# EAGLE library part ESP8266-07 (library heck)
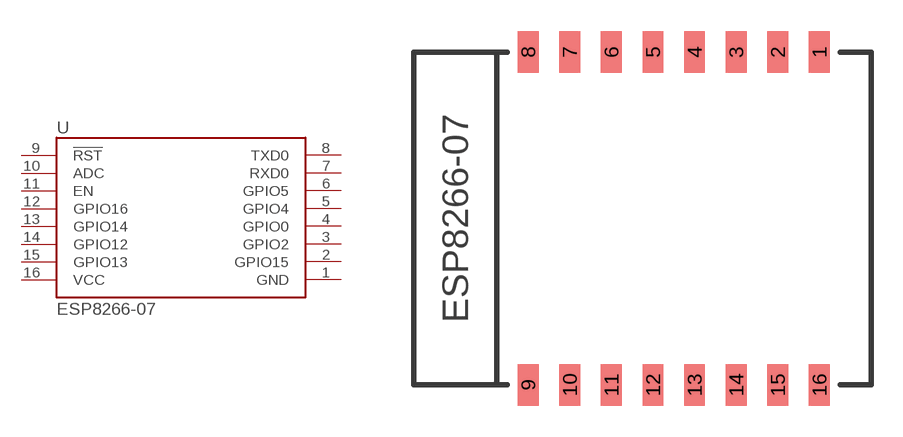
[diagram p57: symbol with the pads of ESP8266-07; footprint ESP8266-07]

Designator prefix U

## ESP8266-07  [ESP8266-07]
1  GND  pwr
2  GPIO15
3  GPIO2
4  GPIO0
5  GPIO4
6  GPIO5
7  RXD0  in
8  TXD0  out
9  !RST  in
10  ADC  in
11  EN  in
12  GPIO16
13  GPIO14
14  GPIO12
15  GPIO13
16  VCC  pwr

## Footprint ESP8266-07 (pad centres in mm)
smd 1 x 2: 1 11.5,8; 2 9.5,8; 3 7.5,8; 4 5.5,8; 5 3.5,8; 6 1.5,8; 7 -0.5,8; 8 -2.5,8; 9 -2.5,-8; 10 -0.5,-8; 11 1.5,-8; 12 3.5,-8; 13 5.5,-8; 14 7.5,-8; 15 9.5,-8; 16 11.5,-8